# EAGLE library part ADS7816U (library MILESTONE4LIB_E)
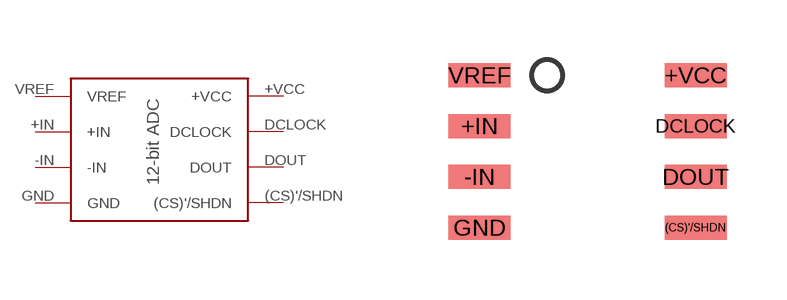
[diagram p4: symbol with the pads of 8-SOIC; footprint 8-SOIC]

Designator prefix -

## ADS7816U  [8-SOIC]
(CS)'/SHDN  (CS)'/SHDN
+IN  +IN
+VCC  +VCC
-IN  -IN
DCLOCK  DCLOCK
DOUT  DOUT
GND  GND
VREF  VREF

## Footprint 8-SOIC (pad centres in mm)
smd 1.55 x 0.6: (CS)'/SHDN 2.7,-1.905; +IN -2.7,0.635; +VCC 2.7,1.905; -IN -2.7,-0.635; DCLOCK 2.7,0.635; DOUT 2.7,-0.635; GND -2.7,-1.905; VREF -2.7,1.905